# Altium footprint library T5_Turn_Down_For_Watt.PcbLib: 38 footprints (part 3 of 3)
Each footprint in its own frame and in the unit in brackets; x right, y up, seen from the top. Pads: shape width x height; smd on the part's side, far side on the other; paste and mask are expansions set on the pad; w line width, h text height; cw(c..) or ccw(c..) is an arc to the next point about the centre after c.
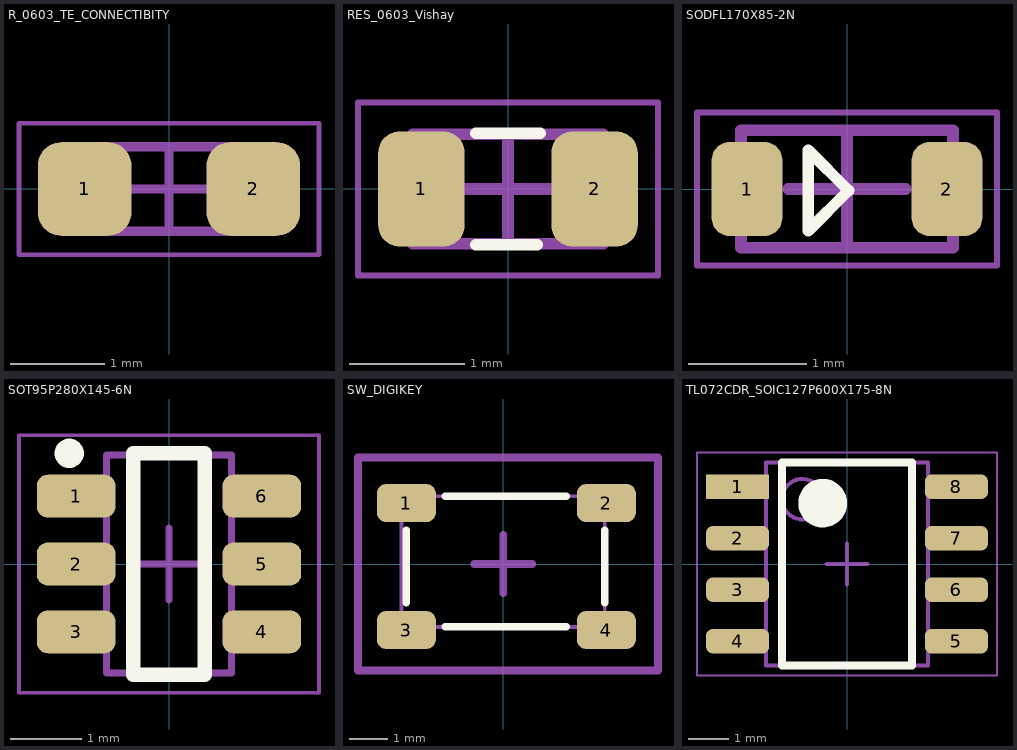
[diagram p2: the footprints below, top view; thin cyan lines are the x and y axes]

## R_0603_TE_CONNECTIBITY [mm] "Chip Resistor, 2-Leads, Body 1.55x0.80mm, IPC Medium Density"
height 0.55
pads (2):
  rrect50% 1x1 smd mask+0.07: 1(-0.9,0) 2(0.9,0)
Mechanical 13:
  lines w0.1: -0.825,-0.45 -0.825,0.45 0.825,0.45 0.825,-0.45 -0.825,-0.45
  text ".Designator" at -0.675,-0.1 h0.6
Mechanical 15:
  lines w0.05: -1.6,-0.7 -1.6,0.7 1.6,0.7 1.6,-0.7 -1.6,-0.7
  lines w0.1: -0.45,0 0.45,0 ; 0,-0.45 0,0.45
3D body "R_0603_TE_CONNECTIBITY.step": height 0.55, standoff 0, extent -0.825,-0.45 0.825,0.45

## RES_0603_Vishay [mm] "Resistor 0603"
height 0.5
pads (2):
  rrect50% 0.75x1 smd mask+0.07: 1(-0.75,0) 2(0.75,0)
Top Overlay:
  lines w0.1: -0.279,-0.483 0.254,-0.483 ; -0.279,0.483 0.279,0.483
Mechanical 13:
  lines w0.1: -0.825,-0.475 -0.825,0.475 0.825,0.475 0.825,-0.475 -0.825,-0.475
  text ".Designator" at -0.675,-0.058 h0.8
Mechanical 15:
  lines w0.05: -1.3,-0.75 -1.3,0.75 1.3,0.75 1.3,-0.75 -1.3,-0.75
  lines w0.1: -0.475,0 0.475,0 ; 0,-0.475 0,0.475
3D body "CRCW06035M62FKEA.STEP": height 0.5, standoff 0, extent -0.775,-0.425 0.775,0.425

## SODFL170X85-2N [mm] "SODFL, 2-Leads, Body 0.90x1.70mm, IPC Medium Density"
height 0.85
pads (2):
  rrect50% 0.6x0.8 smd mask+0.07: 1(-0.85,0) 2(0.85,0)
Top Overlay:
  lines w0.1: -0.33,-0.356 0.013,-0.013 -0.33,0.33 -0.33,-0.356
Mechanical 13:
  lines w0.1: -0.9,-0.5 -0.9,0.5 0.9,0.5 0.9,-0.5 -0.9,-0.5
  text ".Designator" at -0.75,-0.117 h0.7
Mechanical 15:
  lines w0.05: -1.275,-0.65 -1.275,0.65 1.275,0.65 1.275,-0.65 -1.275,-0.65
  lines w0.1: -0.5,0 0.5,0 ; 0,-0.5 0,0.5
3D body "SODFL170X85-2N.step": height 0.85, standoff 0, extent -0.9,-0.5 0.9,0.5

## SOT95P280X145-6N [mm] "SOT23, 6-Leads, Body 2.90x2.80mm, Pitch 0.95mm, IPC Medium Density"
height 1.45
pads (6):
  rrect50% 1.1x0.6 smd mask+0.07: 1(-1.3,0.95) 2(-1.3,0) 3(-1.3,-0.95) 4(1.3,-0.95) 5(1.3,0) 6(1.3,0.95)
Top Overlay:
  circle w0.25: c-1.397,1.549 r0.08
  lines w0.2: -0.5,-1.55 -0.5,1.55 -0.25,1.55 0.25,1.55 0.5,1.55 0.5,-1.55 -0.5,-1.55
Mechanical 13:
  lines w0.1: -0.875,-1.525 0.875,-1.525 0.875,1.525 -0.875,1.525 -0.875,-1.525
  text ".Designator" at -0.725,-0.975 h1.2
Mechanical 15:
  lines w0.05: -2.1,-1.8 2.1,-1.8 2.1,1.8 -2.1,1.8 -2.1,-1.8
  lines w0.1: -0.5,0 0.5,0 ; 0,-0.5 0,0.5
3D body "SOT95P280X145-6N.step": height 1.45, standoff 0, extent -1.5,-1.525 1.5,1.525

## SW_DIGIKEY [mm]
pads (4):
  rrect50% 1.55x1 smd mask+0.07: 1(-2.54,1.6) 2(2.71,1.6) 3(-2.54,-1.732) 4(2.71,-1.732)
Top Overlay:
  lines w0.2: -2.54,-1.016 -2.54,0.889 ; -1.524,-1.651 1.651,-1.651 ; -1.524,1.778 1.651,1.778 ; 2.667,-1.016 2.667,0.889
Mechanical 13:
  lines w0.1: -2.667,-1.651 2.667,-1.651 2.667,1.778 -2.667,1.778 -2.667,-1.651
  text ".Designator" at -2.517,-1.068 h1.3
Mechanical 15:
  lines w0.2: -0.762,0 0.762,0 ; 0,-0.762 0,0.762 ; -3.81,-2.794 -3.81,2.286 -3.81,2.794 4.064,2.794 4.064,-2.794 -3.81,-2.794

## TL072CDR_SOIC127P600X175-8N [mm] "SOIC, 8-Leads, Body 4.91x3.90mm, Pitch 1.27mm, IPC Medium Density"
height 1.75
pads (8):
  rect 1.55x0.6 smd mask+0.07: 1(-2.7,1.905)
  rrect50% 1.55x0.6 smd mask+0.07: 2(-2.7,0.635) 3(-2.7,-0.635) 4(-2.7,-1.905) 5(2.7,-1.905) 6(2.7,-0.635) 7(2.7,0.635) 8(2.7,1.905)
Top Overlay:
  circle w0.6: c-0.6,1.5 r0.3
  lines w0.2: -1.6,-2.5 -1.6,2.5 1.6,2.5 1.6,-2.5 -1.6,-2.5
Mechanical 13:
  lines w0.05: -3.7,-2.75 -3.7,2.75 3.7,2.75 3.7,-2.75 -3.7,-2.75
  lines w0.1: -0.5,0 0.5,0 ; 0,-0.5 0,0.5
  text ".Designator" at -1.016,-1.953 h1
Mechanical 15:
  circle w0.1: c-1.1,1.6 r0.5
  lines w0.1: -2,-2.5 -2,2.5 2,2.5 2,-2.5 -2,-2.5
3D body "TL072CDR_SOIC127P600X175-8N.step": height 1.75, standoff 0, extent -2.997,-2.5 2.997,2.5